# Altium schematic symbol library pc817.SchLib: 1 symbol
Pins are listed as number, name and electrical type; pins without a type are passive.

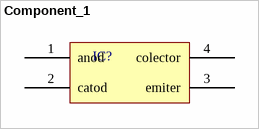
[diagram p0: symbol Component_1]

## Component_1
designator IC?, comment PC817?  (value not drawn)
footprint pc817
pins: 1 anod, 2 catod, 3 emiter, 4 colector